# EAGLE library part WE-LAN_749023010A (library Wurth_Signal & Communications_WE-LAN)
WE-LAN LAN Transformer Characteristics Power over Ethernet up to 150 Watts and speeds up to 1 Gbit/s Available in SMD Compliant with standards: IEEE 802.3u, IEEE 802.3ab, IEEE 802.3af, IEEE 802.3at and upcoming IEEE 802.3bt Applications Suitable for industrial temperatures from –40 °C up to +125 °C Compatible to Industrial Ethernet systems like EtherCAT or Profinet Compliant with most IC’s for Ethernet applications such as Microchip, Texas Instruments, Broadcom, Linear Technology Hubs, Routers, Switches, IP cameras, IoT applications <https://www.we-online.com/components/media/o14800v209%20WE-LAN%20-%20Kopie.jpg> Details see: www.we-online.com/en/components/products/WE-LAN <www.we-online.com/catalog/WE-LAN/?utm_source=eagle_model&utm_medium=description_link&utm_campaign=eisos_eagle> Updated by Ella Wu 2024-03-21 2024 (C) Würth Elektronik
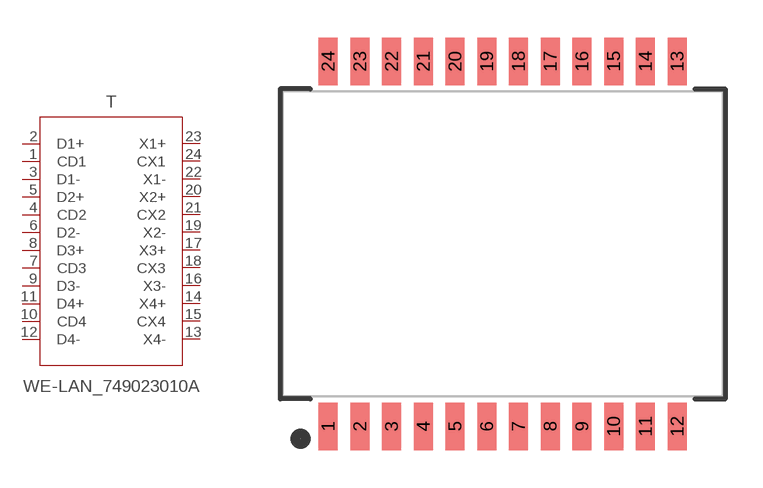
[diagram p22: symbol with the pads of WE-LAN_749023010A; footprint WE-LAN_749023010A]

Designator prefix T

## WE-LAN_749023010A (DATA-RATE: 1000 Base-T; DATASHEET-URL: https://www.we-online.com/catalog/datasheet/749023010A.pdf; HPLE: No; L: 350uH; MOUNT: SMT; PART-NUMBER: 749023010A; POE: PoE (up to 350 mA); PORTS: 1; VALUE: 749023010A; VT: 1500 V (RMS))  [WE-LAN_749023010A]
1  CD1  pas
2  D1+  pas
3  D1-  pas
4  CD2  pas
5  D2+  pas
6  D2-  pas
7  CD3  pas
8  D3+  pas
9  D3-  pas
10  CD4  pas
11  D4+  pas
12  D4-  pas
13  X4-  pas
14  X4+  pas
15  CX4  pas
16  X3-  pas
17  X3+  pas
18  CX3  pas
19  X2-  pas
20  X2+  pas
21  CX2  pas
22  X1-  pas
23  X1+  pas
24  CX1  pas

## Footprint WE-LAN_749023010A (pad centres in mm)
WE-LAN LAN Transformer 1000 Base-T
smd 0.76 x 1.9: 1 -6.985,-7.3; 2 -5.715,-7.3; 3 -4.445,-7.3; 4 -3.175,-7.3; 5 -1.905,-7.3; 6 -0.635,-7.3; 7 0.635,-7.3; 8 1.905,-7.3; 9 3.175,-7.3; 10 4.445,-7.3; 11 5.715,-7.3; 12 6.985,-7.3; 13 6.985,7.3; 14 5.715,7.3; 15 4.445,7.3; 16 3.175,7.3; 17 1.905,7.3; 18 0.635,7.3; 19 -0.635,7.3; 20 -1.905,7.3; 21 -3.175,7.3; 22 -4.445,7.3; 23 -5.715,7.3; 24 -6.985,7.3